# Altium footprint library HTL_FET.PcbLib: 7 footprints
Each footprint in its own frame and in the unit in brackets; x right, y up, seen from the top. Pads: shape width x height; smd on the part's side, far side on the other; paste and mask are expansions set on the pad; w line width, h text height; cw(c..) or ccw(c..) is an arc to the next point about the centre after c.
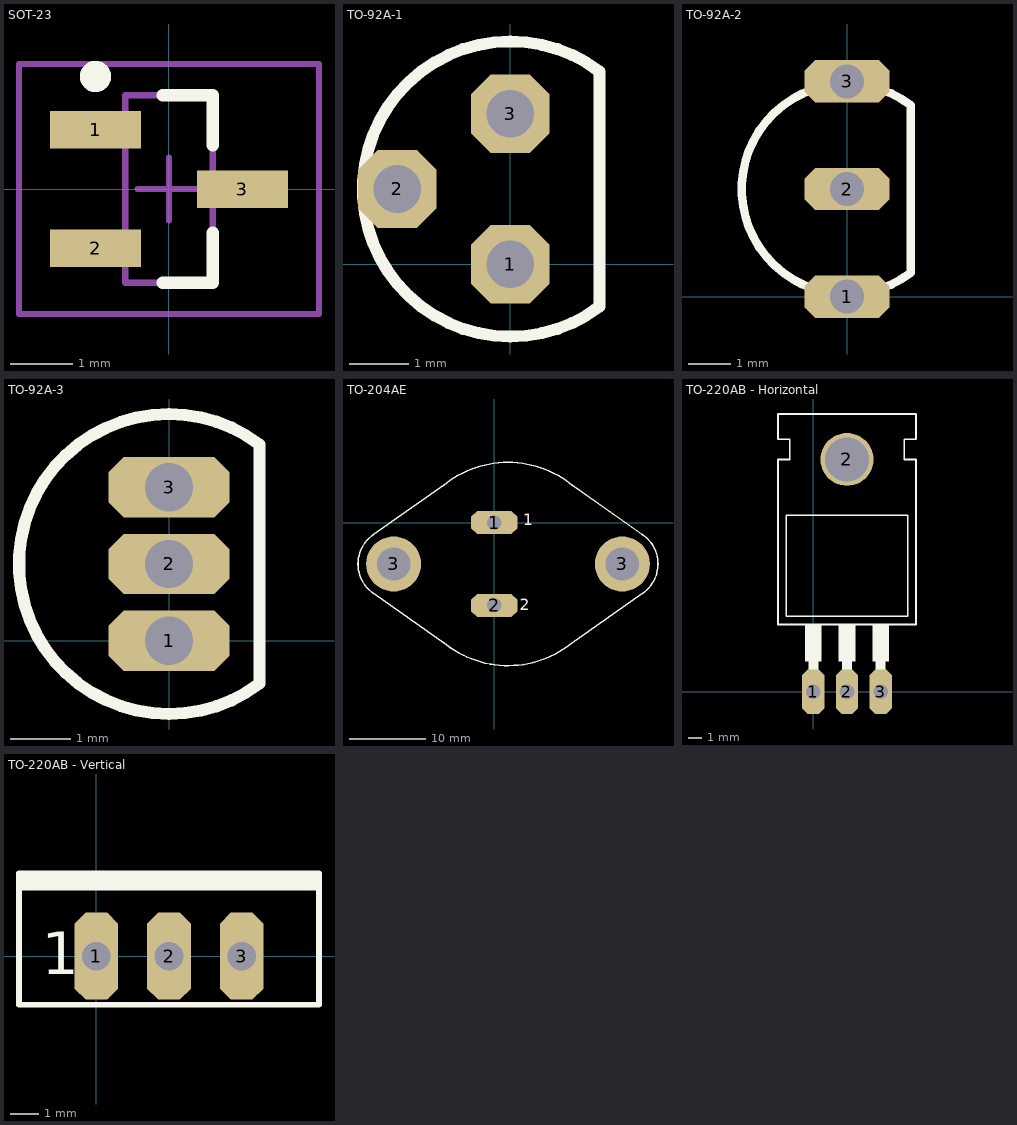
[diagram p0: the footprints below, top view; thin cyan lines are the x and y axes]

## SOT-23 [mm] "SOT23, 3-Leads, Body 2.9x1.3mm, Pitch 0.95mm, Lead Span 2.3mm, IPC Low Density"
height 1.12
pads (3):
  rect 1.45x0.6 smd: 1(-1.175,0.95) 2(-1.175,-0.95) 3(1.175,0)
Top Overlay:
  circle w0.25: c-1.175,1.8 r0.125
  lines w0.2: -0.1,-1.5 0.7,-1.5 0.7,-0.7 ; -0.1,1.5 0.7,1.5 0.7,0.7
Mechanical 13:
  lines w0.1: -0.7,-1.5 0.7,-1.5 0.7,1.5 -0.7,1.5 -0.7,-1.5
Mechanical 15:
  lines w0.1: -0.5,0 0.5,0 ; 0,-0.5 0,0.5 ; -2.4,-2 2.4,-2 2.4,2 -2.4,2 -2.4,-2
3D body "User Library-SOT23-3.step": height 1.3, standoff 0, extent -1.4,-1.45 1.4,1.45

## TO-92A-1 [mil] "TO, Flat Index; 3 In-Line, Axial Leads; Body Dia. 4.5mm; Leads 0.51 x 0.48 mm (max)"
height 270.08
pads (3):
  oct 52x52 hole 31.5: 1(0,0) 2(-75,50) 3(0,100)
Top Overlay:
  lines w7.87: 59.06,-27.95 cw(c0,50) 59.06,127.95 59.05,-27.95

## TO-92A-2 [mm] "TO, Flat Index; 3 In-Line, Axial Leads; Body Dia. 4.5mm; Leads 0.51 x 0.48 mm (max)"
height 6.86
pads (3):
  oct 2x1 hole 0.8: 1(0,0) 2(0,2.54) 3(0,5.08)
Top Overlay:
  lines w0.2: 1.5,0.56 cw(c0,2.54) 1.5,4.52 1.5,0.56
3D body "SW3dPS-TO92.STEP": height 7.24, standoff -4.06, extent -2.528,-0.225 1.55,5.305

## TO-92A-3 [mm] "TO, Flat Index; 3 In-Line, Axial Leads; Body Dia. 4.5mm; Leads 0.51 x 0.48 mm (max)"
height 6.86
pads (3):
  oct 2x1 hole 0.8: 1(0,0) 2(0,1.27) 3(0,2.54)
Top Overlay:
  lines w0.2: 1.5,-0.71 cw(c0,1.27) 1.5,3.25 1.5,-0.71
3D body "User Library-TO-92_Str.STEP": height 7.46, standoff -5.54, extent -2.613,-1.343 1.59,3.883

## TO-204AE [mm] "Oval Flange Mount with (2) Offset Leads; Pin Spacing 10.92 mm; Lead Dia. 1.6 mm (max)"
height 8.38
pads (4):
  oct 6.096x3.048 hole 1.9: 1(0,0) 2(0,-10.92)
  round 7.25 hole 4.4: 3(-13.26,-5.46) 3(16.89,-5.46)
Top Overlay:
  lines w0.2: -15.957,-1.609 -6.484,5.061 ; -15.956,-9.31 cw(c-13.26,-5.46) -15.956,-1.61 ; -15.942,-9.314 -6.484,-15.981 ; -6.798,-15.725 ccw(c1.815,-5.46) 10.113,-15.981 19.573,-9.322 ; -6.798,4.805 cw(c1.815,-5.46) 10.428,4.805 ; 10.114,5.061 19.441,-1.516 ; 19.45,-1.518 cw(c16.89,-5.46) 19.586,-9.31
  text "2" at 3.339,-11.556 h1.5
  text "1" at 3.847,-0.38 h1.5
3D body "SW3dPS-2N3055_New.STEP": height 8.9, standoff -12, extent -17.701,-18.334 21.555,7.666

## TO-220AB - Horizontal [mil] "TO, Thru-Hole, Horizontal, Heatsink Mounted; 3 In-Line Leads; Pitch 2.54 mm"
pads (4):
  oct 66x132 hole 43.31: 1(0,0) 2(100,0) 3(200,0)
  round 157.48 hole 130 unplated: 2(100,690)
Top Overlay:
  circle w5: c100,690 r71
  rectangle: -25,90 25,200
  rectangle: 75,90 125,200
  rectangle: 175,90 225,200
  rectangle: -15,0 15,100
  rectangle: 85,0 115,100
  rectangle: 185,0 215,100
  lines w4: -80,225 280,225 280,525 -80,525 -80,225
  lines w5: -105,200 305,200 305,690 270,690 270,750 305,750 305,825 -105,825 -105,750 -70,750 -70,690 -105,690 -105,200
3D body "User Library-TO220 L.STEP": height 177.17, standoff -118.11, extent -93.7,-7.88 300,767.88

## TO-220AB - Vertical [mil] "TO, Thru-Hole, Vertical, Heatsink Mounted; 3 In-Line Leads; Pitch 2.54 mm"
height 759.84
pads (3):
  oct 60x120 hole 39.37: 1(0,0) 2(100,0) 3(200,0)
Top Overlay:
  rectangle: -106.69,94.49 306.69,114.17
  lines w7.87: -106.69,94.49 306.69,94.49 ; -106.69,-66.93 306.69,-66.93 306.69,114.17 -106.69,114.17 -106.69,-66.93
  text "1" at -75,-25 h59.06
3D body "SW3dPS-TO3B_(TO220)_1.STEP": height 725, standoff -393.11, extent -105,-68.58 304.45,108.58